# Altium footprint library Connector Footprints.PcbLib: 66 footprints (part 2 of 5)
Each footprint in its own frame and in the unit in brackets; x right, y up, seen from the top. Pads: shape width x height; smd on the part's side, far side on the other; paste and mask are expansions set on the pad; w line width, h text height; cw(c..) or ccw(c..) is an arc to the next point about the centre after c.
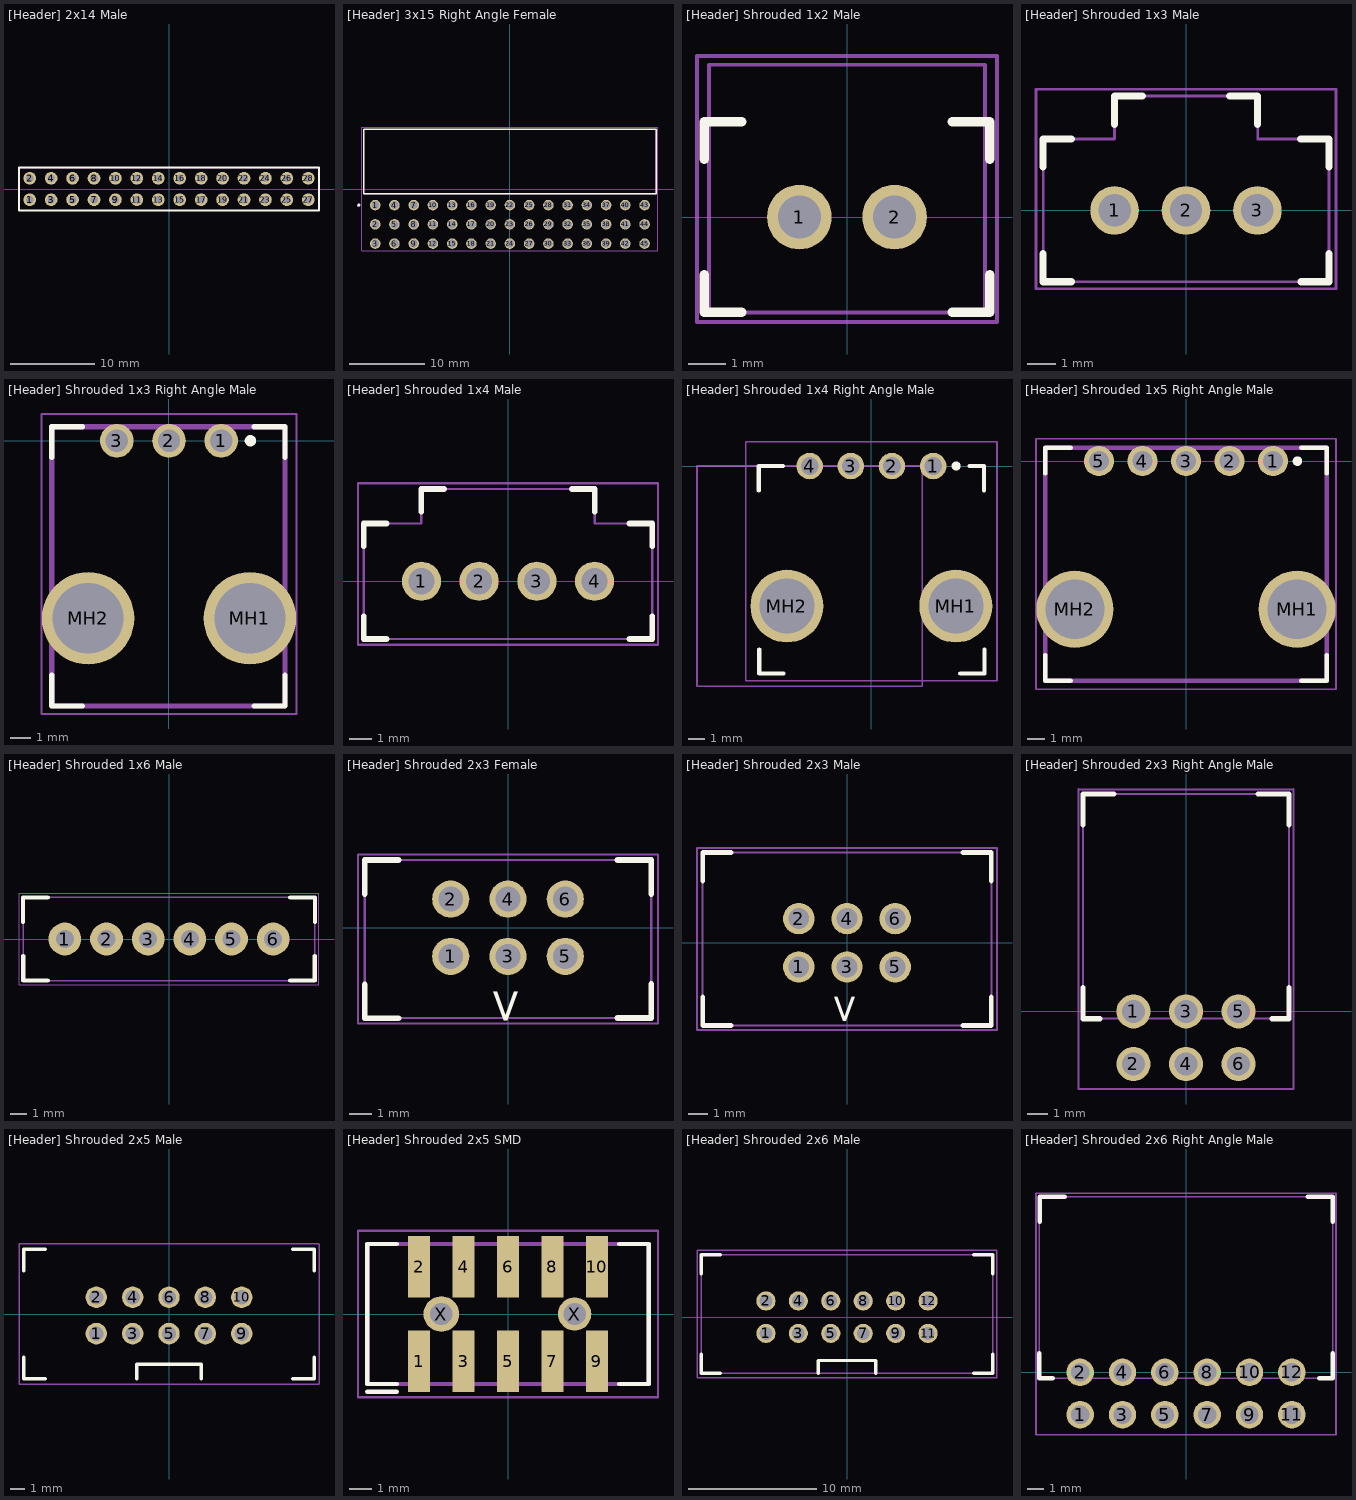
[diagram p1: the footprints below, top view; thin cyan lines are the x and y axes]

## [Header] 2x14 Male [mm] "2.54mm pitch"
pads (28):
  round 1.5 hole 0.9: 1(-16.51,-1.27) 2(-16.51,1.27) 3(-13.97,-1.27) 4(-13.97,1.27) 5(-11.43,-1.27) 6(-11.43,1.27) 7(-8.89,-1.27) 8(-8.89,1.27) 9(-6.35,-1.27) 10(-6.35,1.27) 11(-3.81,-1.27) 12(-3.81,1.27) 13(-1.27,-1.27) 14(-1.27,1.27) 15(1.27,-1.27) 16(1.27,1.27) 17(3.81,-1.27) 18(3.81,1.27) 19(6.35,-1.27) 20(6.35,1.27) 21(8.89,-1.27) 22(8.89,1.27) 23(11.43,-1.27) 24(11.43,1.27) 25(13.97,-1.27) 26(13.97,1.27) 27(16.51,-1.27) 28(16.51,1.27)
Top Overlay:
  lines w0.2: -17.78,-2.54 -17.78,2.54 17.78,2.54 17.78,-2.54 -17.78,-2.54
Bottom Overlay:
  lines w0.2: -17.78,-2.54 -17.78,2.54 17.78,2.54 17.78,-2.54 -17.78,-2.54
Part Outline:
  lines w0.1: -17.78,-2.54 -17.78,2.54 17.78,2.54 17.78,-2.54 -17.78,-2.54
3D body "Pin Header 1x14 TH Pitch 2.54mm.stp": height 9.5, standoff -3.2, extent -17.78,0 17.78,2.54
3D body "Pin Header 1x14 TH Pitch 2.54mm.stp": height 9.5, standoff -3.2, extent -17.78,-2.54 17.78,0

## [Header] 3x15 Right Angle Female [mm] "SSW-115-22-S-T-RA"
pads (45):
  round 1.39 hole 1.04: 1(-17.78,-2.13) 2(-17.78,-4.67) 3(-17.78,-7.21) 4(-15.24,-2.13) 5(-15.24,-4.67) 6(-15.24,-7.21) 7(-12.7,-2.13) 8(-12.7,-4.67) 9(-12.7,-7.21) 10(-10.16,-2.13) 11(-10.16,-4.67) 12(-10.16,-7.21) 13(-7.62,-2.13) 14(-7.62,-4.67) 15(-7.62,-7.21) 16(-5.08,-2.13) 17(-5.08,-4.67) 18(-5.08,-7.21) 19(-2.54,-2.13) 20(-2.54,-4.67) 21(-2.54,-7.21) 22(0,-2.13) 23(0,-4.67) 24(0,-7.21) 25(2.54,-2.13) 26(2.54,-4.67) 27(2.54,-7.21) 28(5.08,-2.13) 29(5.08,-4.67) 30(5.08,-7.21) 31(7.62,-2.13) 32(7.62,-4.67) 33(7.62,-7.21) 34(10.16,-2.13) 35(10.16,-4.67) 36(10.16,-7.21) 37(12.7,-2.13) 38(12.7,-4.67) 39(12.7,-7.21) 40(15.24,-2.13) 41(15.24,-4.67) 42(15.24,-7.21) 43(17.78,-2.13) 44(17.78,-4.67) 45(17.78,-7.21)
Top Overlay:
  circle w0.2: c-19.955,-2.13 r0.1
  lines w0.2: -19.305,-0.606 -19.305,7.905 19.305,7.905 19.305,-0.606 -19.305,-0.606
Physical Drawing:
  circle w0.2: c-19.955,-2.13 r0.1
  lines w0.1: -19.305,-0.606 -19.305,7.905 ; -19.305,-0.606 19.305,-0.606 ; -19.305,-0.606 -19.305,7.905 ; -19.305,7.905 19.305,7.905 ; -19.305,7.905 19.305,7.905 ; 19.305,-0.606 19.305,7.905 ; 19.305,-0.606 19.305,7.905
Part Outline:
  lines w0.05: -19.555,-8.154 -19.555,8.154 19.555,8.154 19.555,-8.154 -19.555,-8.154
3D body "[Header] 3x15 Right Angle Female.stp": height 7.75, standoff -2.27, extent -19.304,-7.407 19.304,7.909

## [Header] Shrouded 1x2 Male [mm]
pads (2):
  round 1.725 hole 1.15: 1(-1.27,0) 2(1.27,0)
Top Overlay:
  lines w0.254: -3.81,-1.54 -3.81,-2.54 -2.81,-2.54 ; -3.81,1.54 -3.81,2.54 -2.81,2.54 ; 2.81,-2.54 3.81,-2.54 3.81,-1.54 ; 2.81,2.54 3.81,2.54 3.81,1.54
Physical Drawing:
  lines w0.1: -3.683,-2.542 3.683,-2.542 3.683,4.062 -3.683,4.062 -3.683,-2.542
Part Outline:
  lines w0.1: -4,-2.8 -4,4.3 4,4.3 4,-2.8 -4,-2.8
3D body "70543-0036.stp": height 11.71, standoff -3.4, extent -3.683,-2.542 3.683,4.062

## [Header] Shrouded 1x3 Male [mm] "070543-0037 / Mates with 005057-9403"
pads (3):
  round 1.725 hole 1.15: 1(-2.54,0) 2(0,0) 3(2.54,0)
Top Overlay:
  lines w0.254: -5.08,-1.54 -5.08,-2.54 -4.08,-2.54 ; -5.08,1.54 -5.08,2.54 -4.08,2.54 ; -2.545,3.064 -2.545,4.064 -1.545,4.064 ; 1.545,4.064 2.545,4.064 2.545,3.064 ; 4.08,2.54 5.08,2.54 5.08,1.54 ; 4.085,-2.54 5.085,-2.54 5.085,-1.54
Physical Drawing:
  lines w0.1: 2.545,4.064 -2.545,4.064 -2.545,2.54 -5.08,2.54 -5.08,-2.54 5.085,-2.54 5.085,2.54 2.55,2.54 2.55,4.059 ; 2.545,4.064 2.55,4.059 ; 2.545,4.064 2.55,4.059
Part Outline:
  lines w0.1: -5.335,-2.79 5.335,-2.79 5.335,4.31 -5.335,4.31 -5.335,-2.79
3D body "70543-0037.stp": height 11.67, standoff -3.44, extent -5.08,-2.542 5.08,4.062

## [Header] Shrouded 1x3 Right Angle Male [mm] "171975-0003 / Mates with 0050579403"
pads (5):
  round 1.635 hole 1.09: 1(2.54,0) 2(0,0) 3(-2.54,0)
  round 4.5 hole 3.45 unplated: MH1(3.94,-8.64) MH2(-3.94,-8.64)
Top Overlay:
  circle w0.35: c3.96,0 r0.1
  lines w0.254: -5.71,-11.41 -5.71,-12.91 -4.21,-12.91 ; -5.71,-0.82 -5.71,0.68 -4.21,0.68 ; 4.15,-12.91 5.65,-12.91 5.65,-11.41 ; 4.15,0.68 5.65,0.68 5.65,-0.82
Physical Drawing:
  lines w0.254: -5.71,-12.91 5.65,-12.91 5.65,0.68 -5.71,0.68 -5.71,-12.91
Part Outline:
  lines w0.1: -6.21,-13.3 6.21,-13.3 6.21,1.3 -6.21,1.3 -6.21,-13.3
3D body "171975-0003.stp": height 6.88, standoff -3.8, extent -5.71,-12.91 5.65,0.68

## [Header] Shrouded 1x4 Male [mm] "70543-0003 / Mates with 0050579404"
pads (4):
  round 1.725 hole 1.15: 1(-3.81,0) 2(-1.27,0) 3(1.27,0) 4(3.81,0)
Top Overlay:
  lines w0.254: -6.35,-1.54 -6.35,-2.54 -5.35,-2.54 ; -6.35,1.54 -6.35,2.54 -5.35,2.54 ; -3.815,3.064 -3.815,4.064 -2.815,4.064 ; 2.815,4.064 3.815,4.064 3.815,3.064 ; 5.35,2.54 6.35,2.54 6.35,1.54 ; 5.355,-2.54 6.355,-2.54 6.355,-1.54
Physical Drawing:
  lines w0.1: -6.355,-2.54 6.355,-2.54 ; -6.35,-2.54 -6.35,2.54 -3.815,2.54 -3.815,4.064 3.815,4.064 3.815,2.54 6.35,2.54 6.35,-2.54
Part Outline:
  lines w0.1: -6.605,-2.79 -6.605,4.31 6.605,4.31 6.605,-2.79 -6.605,-2.79
3D body "70543-0003.stp": height 11.64, standoff -3.47, extent -6.35,-2.54 6.35,4.064

## [Header] Shrouded 1x4 Right Angle Male [mm] "171975-0004 / Mates with 0050579404"
pads (6):
  round 1.635 hole 1.09: 1(3.81,0) 2(1.27,0) 3(-1.27,0) 4(-3.81,0)
  round 4.5 hole 3.4: MH1(5.21,-8.64) MH2(-5.21,-8.64)
Top Overlay:
  circle w0.35: c5.23,0 r0.1
  lines w0.254: -6.95,-1.5 -6.95,0 -5.45,0 ; -6.92,-11.31 -6.92,-12.81 -5.42,-12.81 ; 5.48,-12.81 6.98,-12.81 6.98,-11.31 ; 6.06,0 6.95,0 6.95,-1.5
Physical Drawing:
  lines w0.1: -10.76,-13.59 -10.76,0 3.14,0 3.14,-13.59 -10.76,-13.59
Part Outline:
  lines w0.1: -7.75,-13.25 -7.75,1.5 7.75,1.5 7.75,-13.25 -7.75,-13.25
3D body "171975-0004.stp": height 6.9, standoff -3.78, extent -6.92,-12.81 6.98,0.78

## [Header] Shrouded 1x5 Right Angle Male [mm] "171975-0005 / Mates with 0050579405"
pads (7):
  round 1.755 hole 1.17: 1(5.08,0) 2(2.54,0) 3(0,0) 4(-2.54,0) 5(-5.08,0)
  round 4.5 hole 3.45 unplated: MH1(6.48,-8.64) MH2(-6.48,-8.64)
Top Overlay:
  circle w0.35: c6.5,0 r0.1
  lines w0.254: -8.22,-11.31 -8.22,-12.81 -6.72,-12.81 ; -8.22,-0.72 -8.22,0.78 -6.72,0.78 ; 6.72,-12.81 8.22,-12.81 8.22,-11.31 ; 6.72,0.78 8.22,0.78 8.22,-0.72
Physical Drawing:
  lines w0.254: -8.22,-12.81 8.22,-12.81 8.22,0.78 -8.22,0.78 -8.22,-12.81
Part Outline:
  lines w0.1: -8.75,-13.3 -8.75,1.3 8.75,1.3 8.75,-13.3 -8.75,-13.3
3D body "171975-0005.stp": height 7.35, standoff -3.32, extent -8.22,-12.81 8.22,0.78

## [Header] Shrouded 1x6 Male [mm]
pads (6):
  round 2 hole 1.1: 1(-6.35,0) 2(-3.81,0) 3(-1.27,0) 4(1.27,0) 5(3.81,0) 6(6.35,0)
Top Overlay:
  lines w0.254: -8.895,1.04 -8.895,2.54 -7.395,2.54 ; -8.89,-1.04 -8.89,-2.54 -7.39,-2.54 ; 7.39,-2.54 8.89,-2.54 8.89,-1.04 ; 7.395,2.54 8.895,2.54 8.895,1.04
Physical Drawing:
  lines w0.1: -8.895,-2.54 8.895,-2.54 8.895,2.54 -8.895,2.54 -8.895,-2.54
Part Outline:
  lines w0.05: -9.145,-2.79 9.145,-2.79 9.145,2.79 -9.145,2.79 -9.145,-2.79
3D body "70543-0005.stp": height 11.49, standoff -3.62, extent -8.89,-2.54 8.89,4.064

## [Header] Shrouded 2x3 Female [mm] "SFH11-NBPC-D03-ST-BK"
pads (6):
  round 1.65 hole 1.1: 1(-2.54,-1.27) 2(-2.54,1.27) 3(0,-1.27) 4(0,1.27) 5(2.54,-1.27) 6(2.54,1.27)
Top Overlay:
  lines w0.254: -6.35,-2.513 -6.35,-4.013 -4.85,-4.013 ; -6.35,1.5 -6.35,3 -4.85,3 ; 4.85,-4 6.35,-4 6.35,-2.5 ; 4.85,3 6.35,3 6.35,1.5
  text ">" at -0.75,-2.625 h1.5
Physical Drawing:
  lines w0.1: -6.35,-4 -6.35,3 6.35,3 6.35,-4 -6.35,-4
Part Outline:
  lines w0.1: -6.65,-4.25 -6.65,3.25 6.65,3.25 6.65,-4.25 -6.65,-4.25
3D body "[Header] Shrouded 2x3 Female.STEP": height 8.51, standoff -3.2, extent -6.35,-4.013 6.35,2.997

## [Header] Shrouded 2x3 Male [mm] "SBH11-NBPC-D03-ST-BK"
pads (6):
  round 1.65 hole 1.1: 1(-2.54,-1.27) 2(-2.54,1.27) 3(0,-1.27) 4(0,1.27) 5(2.54,-1.27) 6(2.54,1.27)
Top Overlay:
  lines w0.254: -7.6,-2.85 -7.6,-4.35 -6.1,-4.35 ; -7.6,3.25 -7.6,4.75 -6.1,4.75 ; 6.1,-4.35 7.6,-4.35 7.6,-2.85 ; 6.1,4.75 7.6,4.75 7.6,3.25
  text ">" at -0.75,-2.625 h1.5
Physical Drawing:
  lines w0.1: -7.6,-4.35 7.6,-4.35 7.6,4.75 -7.6,4.75 -7.6,-4.35
Part Outline:
  lines w0.1: -7.9,-4.6 7.9,-4.6 7.9,5 -7.9,5 -7.9,-4.6
3D body "[Header] Shrouded 2x3 Male.stp": height 8.8, standoff -3.3, extent -7.56,-4.35 7.56,4.75

## [Header] Shrouded 2x3 Right Angle Male [mm] "0901303106 / Mates with 0901420006"
pads (6):
  round 1.65 hole 1.1: 1(-2.54,0) 2(-2.54,-2.54) 3(0,0) 4(0,-2.54) 5(2.54,0) 6(2.54,-2.54)
Top Overlay:
  lines w0.254: -4.98,1.15 -4.98,-0.35 -4.17,-0.35 ; -4.98,9.01 -4.98,10.51 -3.48,10.51 ; 3.48,10.51 4.98,10.51 4.98,9.01 ; 4.17,-0.35 4.98,-0.35 4.98,1.15
Physical Drawing:
  lines w0.1: -4.98,-0.35 -4.98,10.51 ; -4.9,-0.35 4.9,-0.35 ; -4.9,10.51 4.9,10.51 ; 4.98,-0.35 4.98,10.51
Part Outline:
  lines w0.1: -5.2,10.73 5.2,10.73 ; -5.2,10.75 -5.2,-3.75 5.2,-3.75 5.2,10.75
3D body "90130-3106.stp": height 9.75, standoff -2.9, extent -4.98,-2.893 4.98,10.51

## [Header] Shrouded 2x5 Male [mm]
pads (10):
  round 1.5 hole 1: 1(-5.08,-1.37) 2(-5.08,1.17) 3(-2.54,-1.37) 4(-2.54,1.17) 5(0,-1.37) 6(0,1.17) 7(2.54,-1.37) 8(2.54,1.17) 9(5.08,-1.37) 10(5.08,1.17)
Top Overlay:
  lines w0.254: -10.15,-3.02 -10.15,-4.52 -8.65,-4.52 ; -10.15,3.02 -10.15,4.52 -8.65,4.52 ; -2.25,-4.52 -2.25,-3.52 2.25,-3.52 2.25,-4.52 ; 8.65,-4.52 10.15,-4.52 10.15,-3.02 ; 8.65,4.52 10.15,4.52 10.15,3.02
Part Outline:
  lines w0.1: -10.48,-4.9 -10.48,4.9 10.48,4.9 10.48,-4.9 -10.48,-4.9
3D body "[Header] Shrouded 2x5 Male.stp": height 8.8, standoff -3.6, extent -10.15,-4.52 10.15,4.52

## [Header] Shrouded 2x5 SMD [mm]
pads (12):
  rect 1x2.75 smd: 1(-4,-2.125) 2(-4,2.125) 3(-2,-2.125) 4(-2,2.125) 5(0,-2.125) 6(0,2.125) 7(2,-2.125) 8(2,2.125) 9(4,-2.125) 10(4,2.125)
  round 1.6 hole 1 unplated: X(-3,0)
  round 1.5 hole 1 unplated: X(3,0)
Top Overlay:
  lines w0.2: -6.325,-3.5 -5,-3.5 ; -5,-3.15 -6.325,-3.15 -6.325,3.15 -5,3.15 ; 5,-3.15 6.325,-3.15 6.325,3.15 5,3.15
Physical Drawing:
  lines w0.2: -6.325,-3.15 6.325,-3.15 6.325,3.15 -6.325,3.15 -6.325,-3.15
Part Outline:
  lines w0.1: -6.75,-3.75 6.75,-3.75 6.75,3.75 -6.75,3.75 -6.75,-3.75
3D body "87832-1010.stp": height 7.6, standoff -1, extent -6.325,-3.12 6.325,3.18

## [Header] Shrouded 2x6 Male [mm] "BHR-12-VUA"
pads (12):
  round 1.5 hole 1: 1(-6.35,-1.27) 2(-6.35,1.27) 3(-3.81,-1.27) 4(-3.81,1.27) 5(-1.27,-1.27) 6(-1.27,1.27) 7(1.27,-1.27) 8(1.27,1.27) 9(3.81,-1.27) 10(3.81,1.27) 11(6.35,-1.27) 12(6.35,1.27)
Top Overlay:
  lines w0.254: -11.42,-2.9 -11.42,-4.4 -9.92,-4.4 ; -11.42,3.395 -11.42,4.895 -9.92,4.895 ; -2.25,-4.4 -2.25,-3.4 2.25,-3.4 2.25,-4.4 ; 9.92,-4.4 11.42,-4.4 11.42,-2.9 ; 9.92,4.895 11.42,4.895 11.42,3.395
Physical Drawing:
  lines w0.1: -2.25,-4.4 -2.25,-3.4 2.25,-3.4 2.25,-4.4 ; -11.42,-4.4 -11.42,4.895 11.42,4.895 11.42,-4.4 -11.42,-4.4
Part Outline:
  lines w0.1: -11.75,-4.75 -11.75,5.25 11.75,5.25 11.75,-4.75 -11.75,-4.75
3D body "[Header] Shrouded 2x6 Male.stp": height 8.8, standoff -3.3, extent -11.42,-4.4 11.42,4.895

## [Header] Shrouded 2x6 Right Angle Male [mm] "90130-3112 / Mates with 90143-0012"
pads (12):
  round 1.65 hole 1.1: 1(-6.35,-2.54) 2(-6.35,0) 3(-3.81,-2.54) 4(-3.81,0) 5(-1.27,-2.54) 6(-1.27,0) 7(1.27,-2.54) 8(1.27,0) 9(3.81,-2.54) 10(3.81,0) 11(6.35,-2.54) 12(6.35,0)
Top Overlay:
  lines w0.254: -8.81,1.15 -8.81,-0.35 -8,-0.35 ; -8.77,9.03 -8.77,10.53 -7.27,10.53 ; 7.31,10.53 8.81,10.53 8.81,9.03 ; 8,-0.35 8.81,-0.35 8.81,1.15
Physical Drawing:
  lines w0.1: -8.81,10.53 -8.81,-0.35 8.81,-0.35 8.81,10.53 -8.77,10.53
Part Outline:
  lines w0.1: -9,-3.75 -9,10.75 9,10.75 9,-3.75 -9,-3.75
3D body "90130-3112.stp": height 9.75, standoff -2.9, extent -8.77,-2.873 8.81,10.53